# Altium schematic symbol library SS14HE3_B_H.Schlib: 1 symbol
Pins are listed as number, name and electrical type; pins without a type are passive.

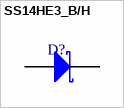
[diagram p0: symbol SS14HE3_B/H]

## SS14HE3_B/H
designator D?
Schottky Diode 1.0 Amp 40 Volt
pins: 1 A, 2 K
1 alternate drawing of the same symbol